# Altium footprint library DS_Lib.PcbLib: 69 footprints (part 5 of 5)
Each footprint in its own frame and in the unit in brackets; x right, y up, seen from the top. Pads: shape width x height; smd on the part's side, far side on the other; paste and mask are expansions set on the pad; w line width, h text height; cw(c..) or ccw(c..) is an arc to the next point about the centre after c.
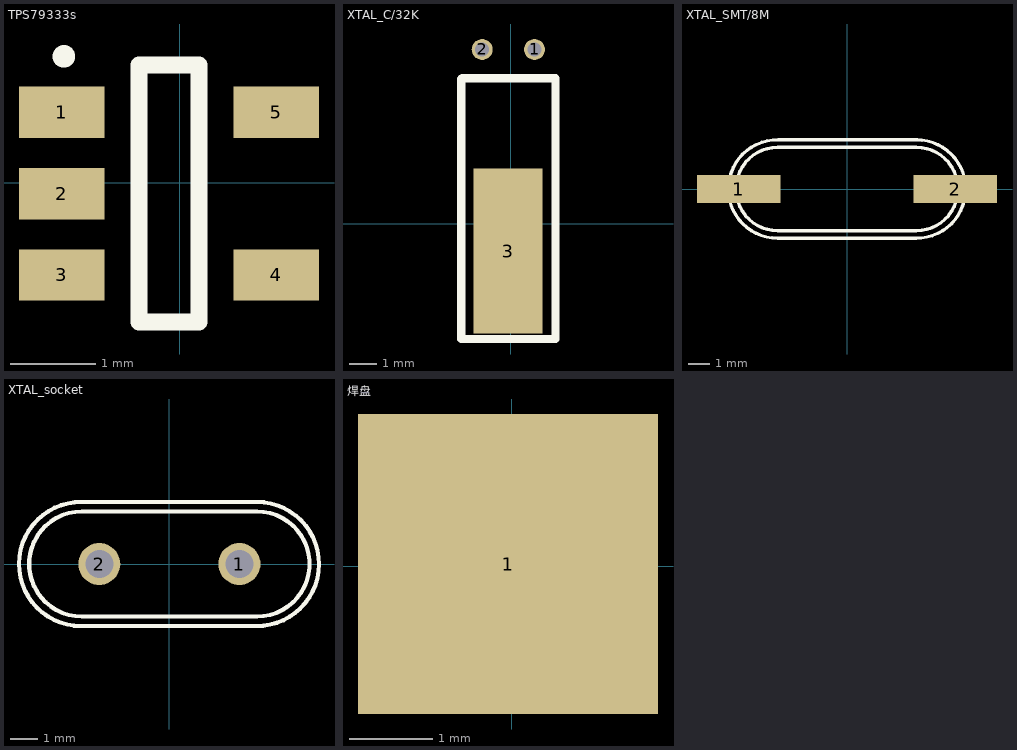
[diagram p4: the footprints below, top view; thin cyan lines are the x and y axes]

## TPS79333s [mm]
pads (5):
  rect 1x0.6 smd: 1(-1.377,0.823) 2(-1.377,-0.127) 3(-1.377,-1.077) 4(1.123,-1.077) 5(1.123,0.823)
Top Overlay:
  circle w0.25: c-1.353,1.473 r0.006
  lines w0.2: -0.477,-1.627 -0.477,1.373 0.223,1.373 0.223,-1.627 -0.477,-1.627

## XTAL_C/32K [mil]
pads (3):
  round 30 hole 20: 1(33.99,250.01) 2(-41.01,250.01)
  rect 98.43x236.22 smd: 3(-4,-38.97)
Top Overlay:
  lines w12: -71,-165 -71,200 -71,207.64 -69.82,208.82 64,208.82 64,-165 -71,-165

## XTAL_SMT/8M [mil]
pads (2):
  rect 150x50 smd paste-11.81 mask-11.81: 1(-195,0) 2(195,0)
Top Overlay:
  lines w6: -124.07,88.58 ccw(c-125,0) -125,-88.58 125,-88.58 ; -123.57,88.58 126.5,88.58 ; 124.09,-88.58 ccw(c125,0) 125,88.58 ; -125,-75 cw(c-125,0) -125,75 125,75 cw(c125,0) 125,-75 -125,-75

## XTAL_socket [mil]
pads (2):
  round 60 hole 40: 1(100,0) 2(-100,0)
Top Overlay:
  lines w6: -126,-88.58 cw(c-126,0) -125.09,88.58 125,88.58 cw(c125,0) 124.07,-88.58 -126,-88.58 ; -125,-75 cw(c-125,0) -125,75 125,75 cw(c125,0) 125,-75 -125,-75

## 焊盘 [mm]
pads (1):
  rect 3.6x3.6 smd: 1(-0.046,0.025)